# EAGLE library part ALFAT-SD (library BMC components)
ALFAT SD Based on the dimensions here: http://www.ghielectronics.com/downloads/ALFAT/ALFAT-SD%20dim.pdf
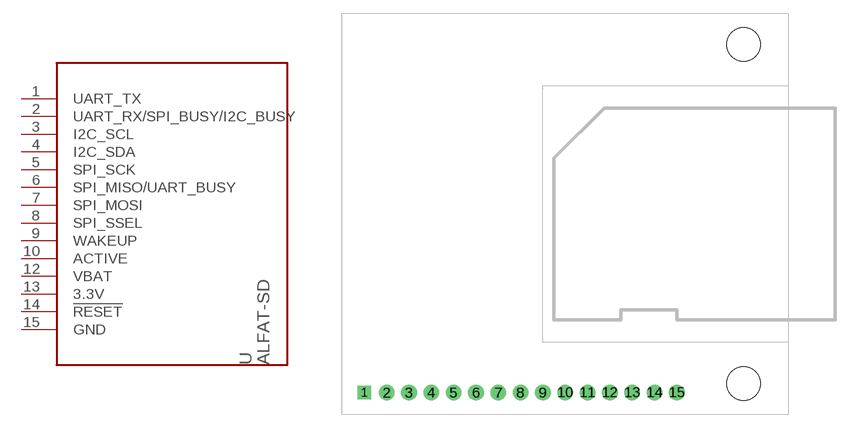
[diagram p21: symbol with the pads of ALFAT_SD; footprint ALFAT_SD]

Designator prefix -

## ALFAT-SD  [ALFAT_SD]
1  UART_TX
2  UART_RX/SPI_BUSY/I2C_BUSY
3  I2C_SCL
4  I2C_SDA
5  SPI_SCK
6  SPI_MISO/UART_BUSY
7  SPI_MOSI
8  SPI_SSEL
9  WAKEUP
10  ACTIVE
12  VBAT
13  3.3V
14  !RESET
15  GND

## Footprint ALFAT_SD (pad centres in mm)
drill 1.016 square: 1 2.54,2.54
drill 1.016 pad 1.778 round: 2 5.08,2.54; 3 7.62,2.54; 4 10.16,2.54; 5 12.7,2.54; 6 15.24,2.54; 7 17.78,2.54; 8 20.32,2.54; 9 22.86,2.54; 10 25.4,2.54; 11 27.94,2.54; 12 30.48,2.54; 13 33.02,2.54; 14 35.56,2.54; 15 38.1,2.54
hole 3.81 at 45.72,3.556
hole 3.81 at 45.72,42.164